# EAGLE library part CJMCU-6701 (library gsm cjmcu 6701)
CJMCU 6701 GSR sensor
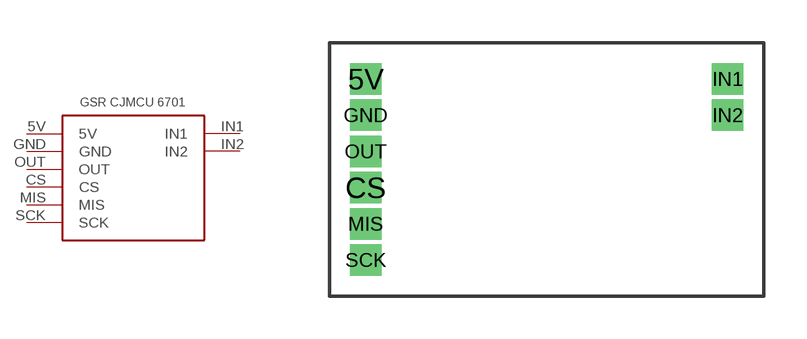
[diagram p0: symbol with the pads of CJMCU-6701-F; footprint CJMCU-6701-F]

Designator prefix -

## CJMCU-6701  [CJMCU-6701-F]
5V  5V
CS  CS
GND  GND
IN1  IN1
IN2  IN2
MIS  MIS
OUT  OUT
SCK  SCK

## Footprint CJMCU-6701-F (pad centres in mm)
drill 0.6 square: 5V -13.97,6.35; CS -13.97,2.54; GND -13.97,5.08; IN1 -1.27,6.35; IN2 -1.27,5.08; MIS -13.97,1.27; OUT -13.97,3.81; SCK -13.97,0